# Altium footprint library B39242B8328P810.PcbLib: 1 footprints
Each footprint in its own frame and in the unit in brackets; x right, y up, seen from the top. Pads: shape width x height; smd on the part's side, far side on the other; paste and mask are expansions set on the pad; w line width, h text height; cw(c..) or ccw(c..) is an arc to the next point about the centre after c.
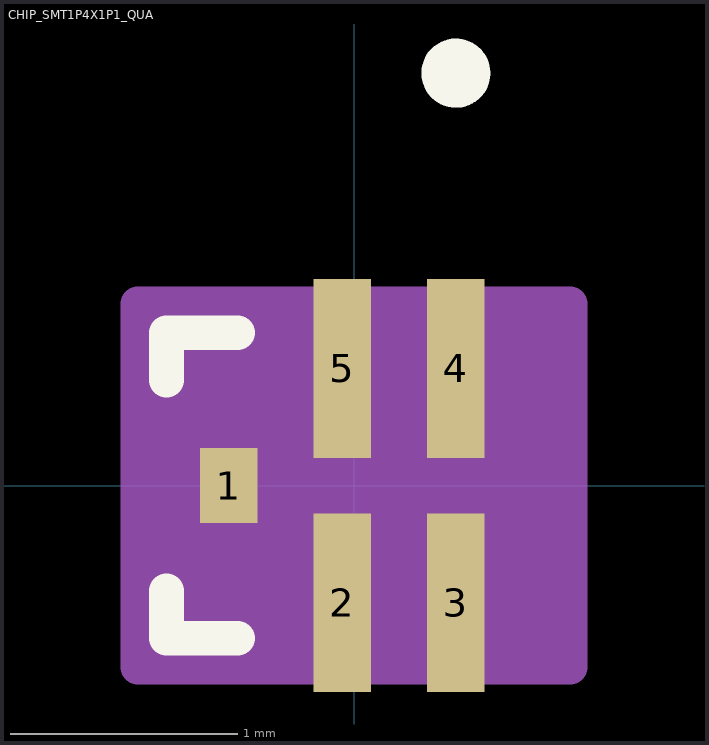
[diagram p0: the footprint, top view; thin cyan lines are the x and y axes]

## CHIP_SMT1P4X1P1_QUA [mil]
pads (15):
  rect 10x13 smd paste-6.5 mask-6.5: 1(-21.71,0)
  rect 10x31 smd paste-15.5 mask-15.5: 2(-2.03,-20.32) 3(17.66,-20.32) 4(17.66,20.32) 5(-2.03,20.32)
  rect 8x10 on Top Paste paste-6.5 mask-6.5: ""(-21.71,0)
  rect 10x13 on Top Solder paste-6.5 mask-6.5: ""(-21.71,0)
  rect 8x28 on Top Paste paste-15.5 mask-15.5: ""(-2.03,-20.32) ""(-2.03,20.32) ""(17.66,-20.32) ""(17.66,20.32)
  rect 10x31 on Top Solder paste-15.5 mask-15.5: ""(-2.03,-20.32) ""(-2.03,20.32) ""(17.66,-20.32) ""(17.66,20.32)
Top Overlay:
  circle w6: c17.66,71.5 r3
  lines w6: -32.5,-18.25 -32.5,-26.5 -20.13,-26.5 ; -32.5,18.25 -32.5,26.5 -20.13,26.5
Mechanical 13:
  circle w0: c17.66,11.5 r3
  lines w1: -27.5,-21.5 27.5,-21.5 27.5,21.5 -27.5,21.5 -27.5,-21.5
Mechanical 15:
  region: 37.5,-31.5 -37.5,-31.5 -37.5,31.5 37.5,31.5
  region: 27.5,-21.5 -27.5,-21.5 -27.5,21.5 27.5,21.5
  lines w6: -37.5,-31.5 -37.5,31.5 37.5,31.5 37.5,-31.5 -37.5,-31.5